# Altium footprint library to_277a_610x430x120.PcbLib: 1 footprints
Each footprint in its own frame and in the unit in brackets; x right, y up, seen from the top. Pads: shape width x height; smd on the part's side, far side on the other; paste and mask are expansions set on the pad; w line width, h text height; cw(c..) or ccw(c..) is an arc to the next point about the centre after c.
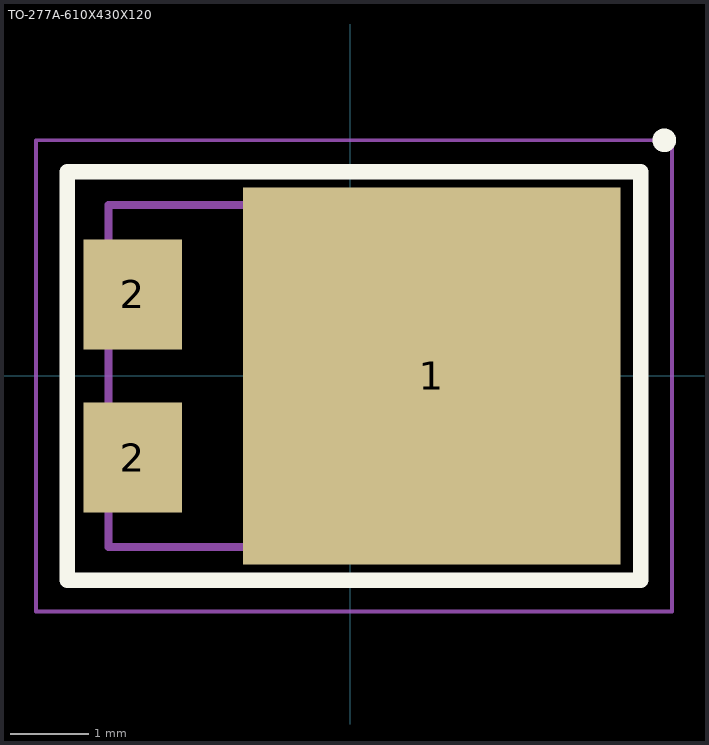
[diagram p0: the footprint, top view; thin cyan lines are the x and y axes]

## TO-277A-610X430X120 [mm] "DFN, 3-Leads, Body 6,10x4,30mm, IPC Medium Density"
height 1.2
pads (3):
  rect 4.8x4.8 smd: 1(1.04,0)
  rect 1.25x1.4 smd: 2(-2.765,-1.04) 2(-2.765,1.04)
Top Overlay:
  circle w0.2: c4,3 r0.05
  lines w0.2: -3.6,-2.6 -3.6,-1.2 -3.6,1.2 -3.6,2.6 3.7,2.6 3.7,-2.6 -3.6,-2.6
Top Comment:
  text ".Comment" at 1,3.5 h1.2
Top Designator:
  text ".Designator" at -0.5,3.5 h1.2
Top Component Outline:
  lines w0.1: -3.075,-2.175 3.075,-2.175 3.075,2.175 -3.075,2.175 -3.075,-2.175
Top Courtyard (Mech15):
  lines w0.05: -4,-3 4.1,-3 4.1,3 -4,3 -4,-3
  lines w0.1: -0.5,0 0.5,0 ; 0,-0.5 0,0.5
3D body "smpc package.STEP": height 1.05, standoff 0, extent -3.21,-2.3 3.29,2.3